# EAGLE library part 74827-? (library ic-74)
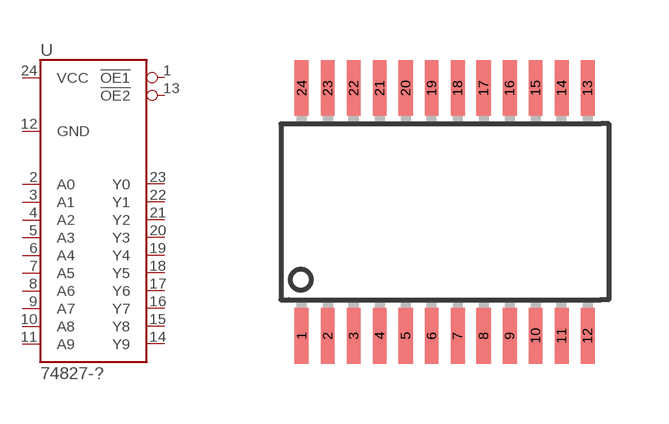
[diagram p0: symbol with the pads of TSSOP24; footprint TSSOP24]

Designator prefix U

## 74827-TSSOP  [TSSOP24]
1  !OE1
2  A0
3  A1
4  A2
5  A3
6  A4
7  A5
8  A6
9  A7
10  A8
11  A9
12  GND
13  !OE2
14  Y9
15  Y8
16  Y7
17  Y6
18  Y5
19  Y4
20  Y3
21  Y2
22  Y1
23  Y0
24  VCC

## Footprint TSSOP24 (pad centres in mm)
smd 0.35 x 1.4: 1 -3.575,-3.1; 2 -2.925,-3.1; 3 -2.275,-3.1; 4 -1.625,-3.1; 5 -0.975,-3.1; 6 -0.325,-3.1; 7 0.325,-3.1; 8 0.975,-3.1; 9 1.625,-3.1; 10 2.275,-3.1; 11 2.925,-3.1; 12 3.575,-3.1; 13 3.575,3.1; 14 2.925,3.1; 15 2.275,3.1; 16 1.625,3.1; 17 0.975,3.1; 18 0.325,3.1; 19 -0.325,3.1; 20 -0.975,3.1; 21 -1.625,3.1; 22 -2.275,3.1; 23 -2.925,3.1; 24 -3.575,3.1